# EAGLE library part STM32F103RBT6 (library leaf)
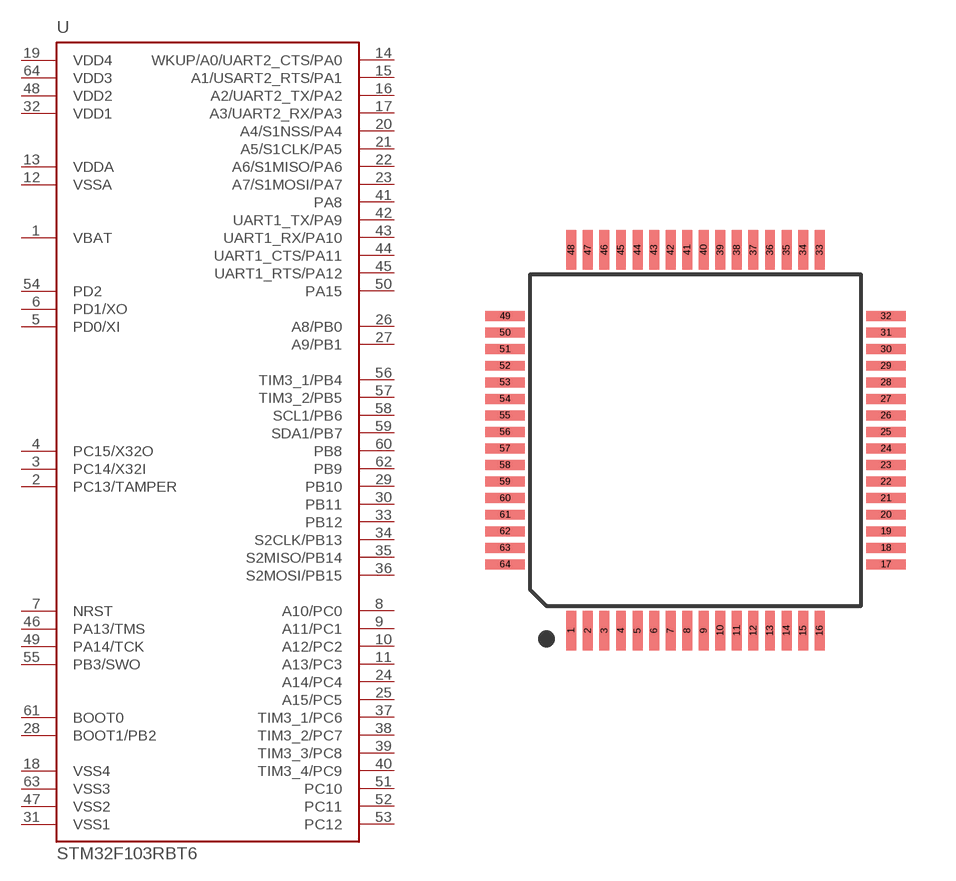
[diagram p0: symbol with the pads of STM32_TQFP_64_10X10; footprint STM32_TQFP_64_10X10]

Designator prefix U

## STM32F103RBT6  [STM32_TQFP_64_10X10]
1  VBAT
2  PC13/TAMPER
3  PC14/X32I
4  PC15/X32O
5  PD0/XI
6  PD1/XO
7  NRST
8  A10/PC0
9  A11/PC1
10  A12/PC2
11  A13/PC3
12  VSSA
13  VDDA
14  WKUP/A0/UART2_CTS/PA0
15  A1/USART2_RTS/PA1
16  A2/UART2_TX/PA2
17  A3/UART2_RX/PA3
18  VSS4
19  VDD4
20  A4/S1NSS/PA4
21  A5/S1CLK/PA5
22  A6/S1MISO/PA6
23  A7/S1MOSI/PA7
24  A14/PC4
25  A15/PC5
26  A8/PB0
27  A9/PB1
28  BOOT1/PB2
29  PB10
30  PB11
31  VSS1
32  VDD1
33  PB12
34  S2CLK/PB13
35  S2MISO/PB14
36  S2MOSI/PB15
37  TIM3_1/PC6
38  TIM3_2/PC7
39  TIM3_3/PC8
40  TIM3_4/PC9
41  PA8
42  UART1_TX/PA9
43  UART1_RX/PA10
44  UART1_CTS/PA11
45  UART1_RTS/PA12
46  PA13/TMS
47  VSS2
48  VDD2
49  PA14/TCK
50  PA15
51  PC10
52  PC11
53  PC12
54  PD2
55  PB3/SWO
56  TIM3_1/PB4
57  TIM3_2/PB5
58  SCL1/PB6
59  SDA1/PB7
60  PB8
61  BOOT0
62  PB9
63  VSS3
64  VDD3

## Footprint STM32_TQFP_64_10X10 (pad centres in mm)
smd 0.3 x 1.2: 1 -3.75,-5.75; 2 -3.25,-5.75; 3 -2.75,-5.75; 4 -2.25,-5.75; 5 -1.75,-5.75; 6 -1.25,-5.75; 7 -0.75,-5.75; 8 -0.25,-5.75; 9 0.25,-5.75; 10 0.75,-5.75; 11 1.25,-5.75; 12 1.75,-5.75; 13 2.25,-5.75; 14 2.75,-5.75; 15 3.25,-5.75; 16 3.75,-5.75; 33 3.75,5.75; 34 3.25,5.75; 35 2.75,5.75; 36 2.25,5.75; 37 1.75,5.75; 38 1.25,5.75; 39 0.75,5.75; 40 0.25,5.75; 41 -0.25,5.75; 42 -0.75,5.75; 43 -1.25,5.75; 44 -1.75,5.75; 45 -2.25,5.75; 46 -2.75,5.75; 47 -3.25,5.75; 48 -3.75,5.75
smd 1.2 x 0.3: 17 5.75,-3.75; 18 5.75,-3.25; 19 5.75,-2.75; 20 5.75,-2.25; 21 5.75,-1.75; 22 5.75,-1.25; 23 5.75,-0.75; 24 5.75,-0.25; 25 5.75,0.25; 26 5.75,0.75; 27 5.75,1.25; 28 5.75,1.75; 29 5.75,2.25; 30 5.75,2.75; 31 5.75,3.25; 32 5.75,3.75; 49 -5.75,3.75; 50 -5.75,3.25; 51 -5.75,2.75; 52 -5.75,2.25; 53 -5.75,1.75; 54 -5.75,1.25; 55 -5.75,0.75; 56 -5.75,0.25; 57 -5.75,-0.25; 58 -5.75,-0.75; 59 -5.75,-1.25; 60 -5.75,-1.75; 61 -5.75,-2.25; 62 -5.75,-2.75; 63 -5.75,-3.25; 64 -5.75,-3.75